# Altium footprint library SOD-923.PcbLib: 2 footprints
Each footprint in its own frame and in the unit in brackets; x right, y up, seen from the top. Pads: shape width x height; smd on the part's side, far side on the other; paste and mask are expansions set on the pad; w line width, h text height; cw(c..) or ccw(c..) is an arc to the next point about the centre after c.
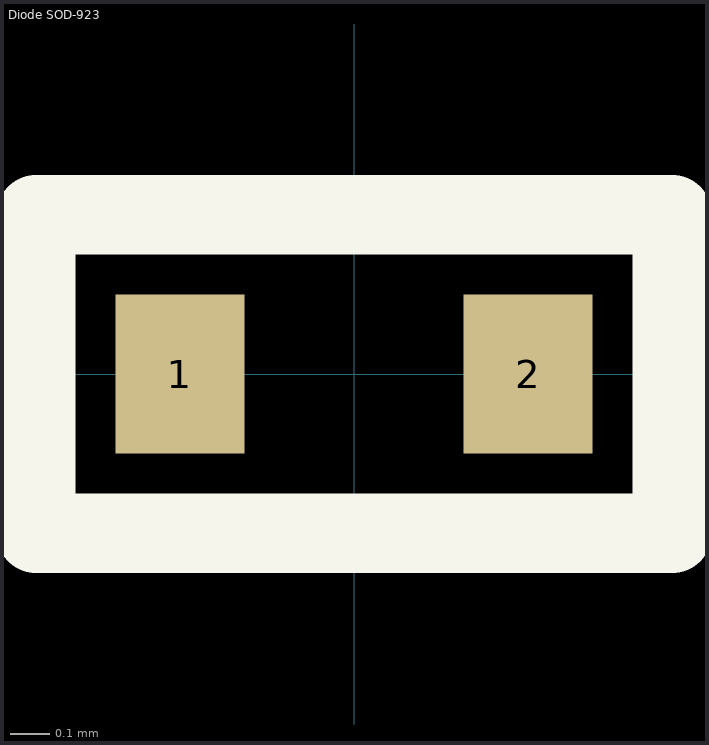
[diagram p0: the footprints below, top view; thin cyan lines are the x and y axes]

## Diode SOD-923 [mm]
pads (2):
  rect 0.325x0.4 smd: 1(-0.437,0) 2(0.437,0)
Top Overlay:
  lines w0.2: -0.8,-0.4 -0.8,0 -0.8,0.4 0.8,0.4 0.8,-0.4 -0.8,-0.4
3D body: height 0.48, standoff 0, extent -0.406,-0.305 0.406,0.305

## PCBComponent_1 [mm]